# Altium schematic symbol library IRF9321TRPBF.SchLib: 1 symbol
Pins are listed as number, name and electrical type; pins without a type are passive.

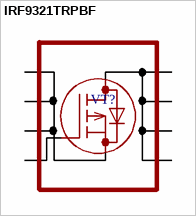
[diagram p0: symbol IRF9321TRPBF]

## IRF9321TRPBF
designator VT?
pins: 1 S, 2 S, 3 S, 4 G, 5 D, 6 D, 7 D, 8 D